# EAGLE library part MAX3377E (library power)
MAX3377EEUD+, Quad Voltage Level Translator, LVCMOS, LVTTL, 3-State 1.65 5.5 V 14-Pin TSSOP <https://componentsearchengine.com/Images/3/MAX3377EEUD%2B.jpg> Source: Datasheet <http://datasheets.maximintegrated.com/en/ds/MAX3372E-MAX3393E.pdf>
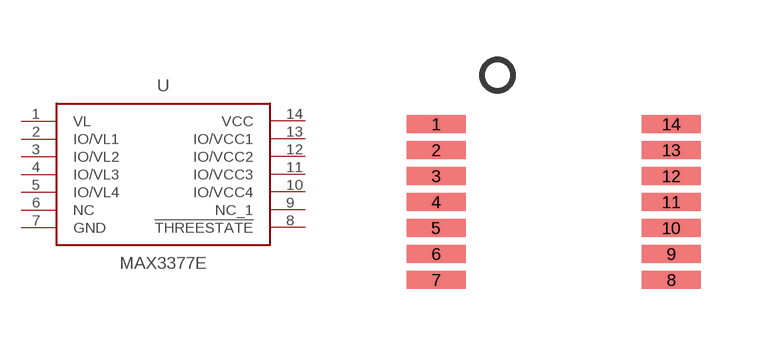
[diagram p1: symbol with the pads of MAX3377E; footprint MAX3377E]

Designator prefix -

## MAX3377E (DESCRIPTION: MAX3377EEUD+, Quad Voltage Level Translator, LVCMOS, LVTTL, 3-State 1.65 5.5 V 14-Pin TSSOP)  [MAX3377E]
1  VL  pwr
2  IO/VL1
3  IO/VL2
4  IO/VL3
5  IO/VL4
6  NC  nc
7  GND  pwr
8  !THREESTATE  out
9  NC_1  pas
10  IO/VCC4
11  IO/VCC3
12  IO/VCC2
13  IO/VCC1
14  VCC  pwr

## Footprint MAX3377E (pad centres in mm)
Max 21-0066_M (14 TSSOP)
smd 1.475 x 0.45: 1 -2.938,1.95; 2 -2.938,1.3; 3 -2.938,0.65; 4 -2.938,0; 5 -2.938,-0.65; 6 -2.938,-1.3; 7 -2.938,-1.95; 8 2.938,-1.95; 9 2.938,-1.3; 10 2.938,-0.65; 11 2.938,0; 12 2.938,0.65; 13 2.938,1.3; 14 2.938,1.95